# EAGLE library part ESP12E-DEVKIT (library 00shaunc)
Symbol and footprint(s) for the NodeMCU DevKit v1.0 board, based on the ESP12E. See https://github.com/nodemcu/nodemcu-devkit-v1.0.
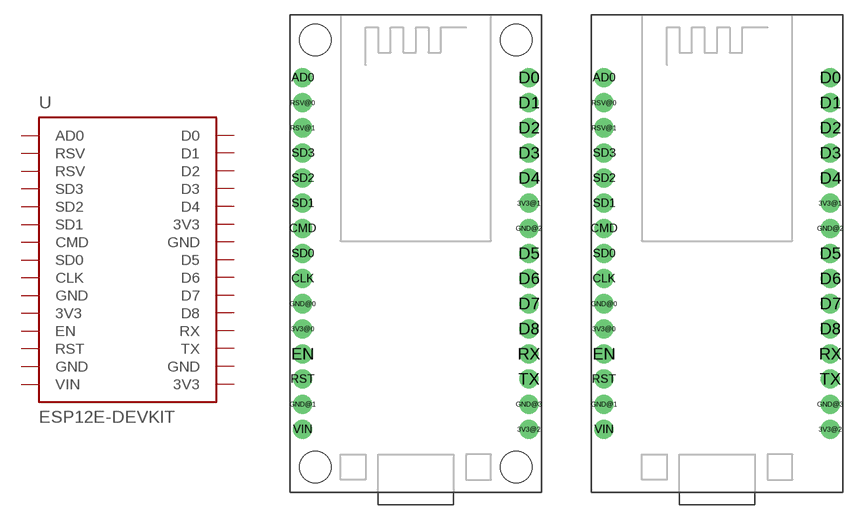
[diagram p14: symbol with the pads of ESP12E-DEVKIT-DRILL; footprints ESP12E-DEVKIT-DRILL, ESP12E-DEVKIT]

Designator prefix -

## ESP12E-DEVKIT-DRILL  [ESP12E-DEVKIT-DRILL]
3V3@0  3V3  pwr
3V3@1  3V3  pwr
3V3@2  3V3  pwr
AD0  AD0
CLK  CLK
CMD  CMD
D0  D0
D1  D1
D2  D2
D3  D3
D4  D4
D5  D5
D6  D6
D7  D7
D8  D8
EN  EN
GND@0  GND
GND@1  GND
GND@2  GND
GND@3  GND
RST  RST
RSV@0  RSV
RSV@1  RSV
RX  RX
SD0  SD0
SD1  SD1
SD2  SD2
SD3  SD3
TX  TX
VIN  VIN

## ESP12E-DEVKIT  [ESP12E-DEVKIT]
Pads as for ESP12E-DEVKIT-DRILL

## Footprint ESP12E-DEVKIT-DRILL (pad centres in mm)
drill 0.8 pad 1.93: 3V3@0 -11.43,-8.89; 3V3@1 11.43,3.81; 3V3@2 11.43,-19.05; AD0 -11.43,16.51; CLK -11.43,-3.81; CMD -11.43,1.27; D0 11.43,16.51; D1 11.43,13.97; D2 11.43,11.43; D3 11.43,8.89; D4 11.43,6.35; D5 11.43,-1.27; D6 11.43,-3.81; D7 11.43,-6.35; D8 11.43,-8.89; EN -11.43,-11.43; GND@0 -11.43,-6.35; GND@1 -11.43,-16.51; GND@2 11.43,1.27; GND@3 11.43,-16.51; RST -11.43,-13.97; RSV@0 -11.43,13.97; RSV@1 -11.43,11.43; RX 11.43,-11.43; SD0 -11.43,-1.27; SD1 -11.43,3.81; SD2 -11.43,6.35; SD3 -11.43,8.89; TX 11.43,-13.97; VIN -11.43,-19.05
hole 3.2 at -10.16,20.32
hole 3.2 at 10.16,20.32
hole 3.2 at 10.16,-22.86
hole 3.2 at -10.16,-22.86

## Footprint ESP12E-DEVKIT (pad centres in mm)
drill 0.8 pad 1.93: 3V3@0 -11.43,-8.89; 3V3@1 11.43,3.81; 3V3@2 11.43,-19.05; AD0 -11.43,16.51; CLK -11.43,-3.81; CMD -11.43,1.27; D0 11.43,16.51; D1 11.43,13.97; D2 11.43,11.43; D3 11.43,8.89; D4 11.43,6.35; D5 11.43,-1.27; D6 11.43,-3.81; D7 11.43,-6.35; D8 11.43,-8.89; EN -11.43,-11.43; GND@0 -11.43,-6.35; GND@1 -11.43,-16.51; GND@2 11.43,1.27; GND@3 11.43,-16.51; RST -11.43,-13.97; RSV@0 -11.43,13.97; RSV@1 -11.43,11.43; RX 11.43,-11.43; SD0 -11.43,-1.27; SD1 -11.43,3.81; SD2 -11.43,6.35; SD3 -11.43,8.89; TX 11.43,-13.97; VIN -11.43,-19.05